# EAGLE library part 61300911121 (library Header_R_ESP32)
CONN HEADER VERT 9POS 2.54MM Manufacturer's datasheet <https://katalog.we-online.de/em/datasheet/6130xx11121.pdf>
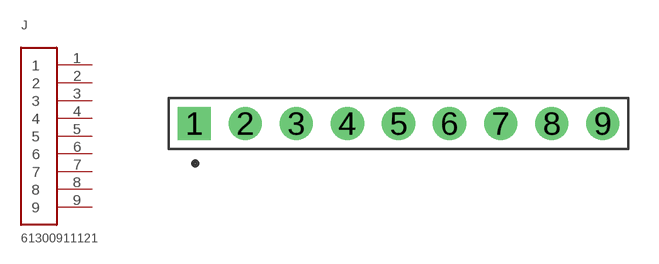
[diagram p0: symbol with the pads of 61300911121; footprint 61300911121]

Designator prefix J

## 61300911121 (CREATED_BY: PCBLayout.com; DIGI_KEY_PART_NUMBER: 732-5322-ND; MANUFACTURER: Wurth Electronics Inc.; MPN: 61300911121)  [61300911121]
1  1  pas
2  2  pas
3  3  pas
4  4  pas
5  5  pas
6  6  pas
7  7  pas
8  8  pas
9  9  pas

## Footprint 61300911121 (pad centres in mm)
drill 1.1 square: 1 -10.16,0
drill 1.1: 2 -7.62,0; 3 -5.08,0; 4 -2.54,0; 5 0,0; 6 2.54,0; 7 5.08,0; 8 7.62,0; 9 10.16,0